# EAGLE library part CAT16_RES_NET (library Icotech_Eagle_Library)
BOURNS RESISTOR NETWORK
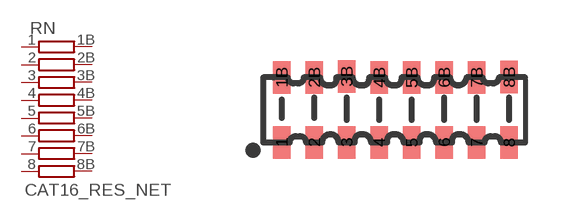
[diagram p3: symbol with the pads of CAT16-J8; footprint CAT16-J8]

Designator prefix RN

## CAT16_RES_NET  [CAT16-J8]
1  1A  pas
1B  1B  pas
2  2A  pas
2B  2B  pas
3  3A  pas
3B  3B  pas
4  4A  pas
4B  4B  pas
5  5A  pas
5B  5B  pas
6  6A  pas
6B  6B  pas
7  7A  pas
7B  7B  pas
8  8A  pas
8B  8B  pas

## Footprint CAT16-J8 (pad centres in mm)
BOURNS RESISTOR NETWORK
smd 0.432 x 0.813: 1 -2.438,-0.813; 1B -2.438,0.813; 2 -1.626,-0.813; 2B -1.626,0.813; 3 -0.813,-0.813; 3B -0.813,0.838; 4 0,-0.813; 4B 0,0.813; 5 0.813,-0.813; 5B 0.813,0.813; 6 1.626,-0.813; 6B 1.626,0.813; 7 2.438,-0.813; 7B 2.438,0.813; 8 3.251,-0.813; 8B 3.251,0.822